# Altium footprint library V40_Test_Adapter.PcbLib: 2 footprints
Each footprint in its own frame and in the unit in brackets; x right, y up, seen from the top. Pads: shape width x height; smd on the part's side, far side on the other; paste and mask are expansions set on the pad; w line width, h text height; cw(c..) or ccw(c..) is an arc to the next point about the centre after c.
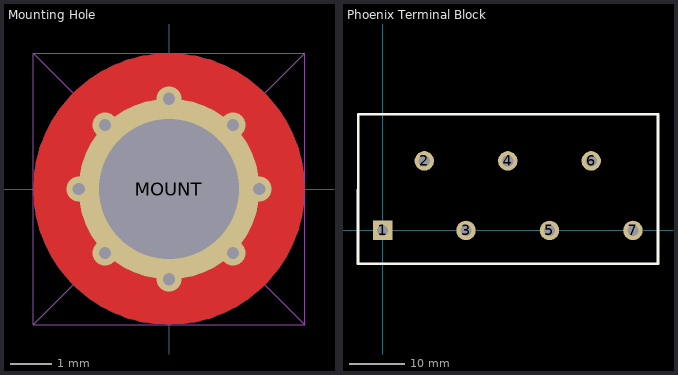
[diagram p0: the footprints below, top view; thin cyan lines are the x and y axes]

## Mounting Hole [mm] "Mounting Hole"
pads (1):
  round 4.4 hole 3.4 mask+0.038: MOUNT(0,0)
via 1.556,1.556 diameter 0.6 hole 0.3
via 2.2,0 diameter 0.6 hole 0.3
via 1.556,-1.556 diameter 0.6 hole 0.3
via 0,-2.2 diameter 0.6 hole 0.3
via -1.556,-1.556 diameter 0.6 hole 0.3
via -2.2,0 diameter 0.6 hole 0.3
via -1.556,1.556 diameter 0.6 hole 0.3
via 0,2.2 diameter 0.6 hole 0.3
Top Layer:
  circle w1.2: c0,0 r2.702
Bottom Layer:
  circle w1.2: c0,0 r2.702
Top Solder:
  circle w1.6: c0,0 r2.4
Bottom Solder:
  circle w2.6: c0,0 r2.3
Mechanical 2:
  lines w0.025: -3.3,-3.3 0,0 ; -3.3,-3.3 3.3,-3.3 ; -3.3,-3.3 -3.3,3.3 ; -3.3,3.3 3.3,3.3 ; -3.3,3.3 0,0 ; 0,0 3.3,-3.3 ; 0,0 3.3,3.3 ; 3.3,-3.3 3.3,3.3
Mechanical 7:
  circle w1.2: c0,0 r2.2
  circle w0.1: c0,0.002 r2.7
  region: 0.8,-0.5 0.5,-0.8 1.066,-1.366 1.366,-1.066
  rectangle: 0.5,-1.6 1.6,-0.8
  region: 0.8,-0.5 0.8,-1.6 1.6,-1.6 1.6,-0.5
  region: -0.5,-0.8 -0.8,-0.5 -1.366,-1.066 -1.066,-1.366
  region: -1.6,-0.5 -1.6,-1.6 -0.8,-1.6 -0.8,-0.5
  region: -0.5,-0.8 -1.6,-0.8 -1.6,-1.6 -0.5,-1.6
  region: -0.8,0.5 -0.5,0.8 -1.066,1.366 -1.366,1.066
  region: -0.5,1.6 -1.6,1.6 -1.6,0.8 -0.5,0.8
  region: -0.8,0.5 -0.8,1.6 -1.6,1.6 -1.6,0.5
  region: 0.5,0.8 0.8,0.5 1.366,1.066 1.066,1.366
  region: 1.6,0.5 1.6,1.6 0.8,1.6 0.8,0.5
  rectangle: 0.5,0.8 1.6,1.6
Mechanical 8:
  circle w0.6: c0,0 r2
  rectangle: -2.8,-1.4 -1.7,1.4
  region: 1.4,1.7 1.4,2.8 -1.4,2.8 -1.4,1.7
  region: -1.4,-1.7 -1.4,-2.8 1.4,-2.8 1.4,-1.7
  region: 0.551,-1.951 1.4,-2.8 2.8,-1.4 1.951,-0.551
  region: 1.951,0.551 2.8,1.4 1.4,2.8 0.551,1.951
  region: -0.551,1.951 -1.4,2.8 -2.8,1.4 -1.951,0.551
  region: -1.951,-0.551 -2.8,-1.4 -1.4,-2.8 -0.551,-1.951
  rectangle: 1.7,-1.4 2.8,1.4
  lines w0.1: -2.8,-1.4 -2.8,1.4 -1.4,2.8 1.4,2.8 2.8,1.4 2.8,-1.4 1.4,-2.8 -1.4,-2.8 -2.8,-1.4

## Phoenix Terminal Block [mm]
pads (7):
  rect 3.5x3.5 hole 2: 1(0,0)
  round 3.5 hole 2: 2(7.5,12.5) 3(15,0) 4(22.5,12.5) 5(30,0) 6(37.5,12.5) 7(45,0)
Top Overlay:
  lines w0.45: -4.408,-6 -4.353,20.9 7.7,20.9 37.7,20.9 49.5,20.9 49.5,-6 -4.408,-6
3D body "PhoenixTerminalBlock.step": height 28.68, standoff -3.45, extent -4.2,-5.8 49.3,20.655